# EAGLE library part ADAU1452WBCPZ (library Deegou_IC)
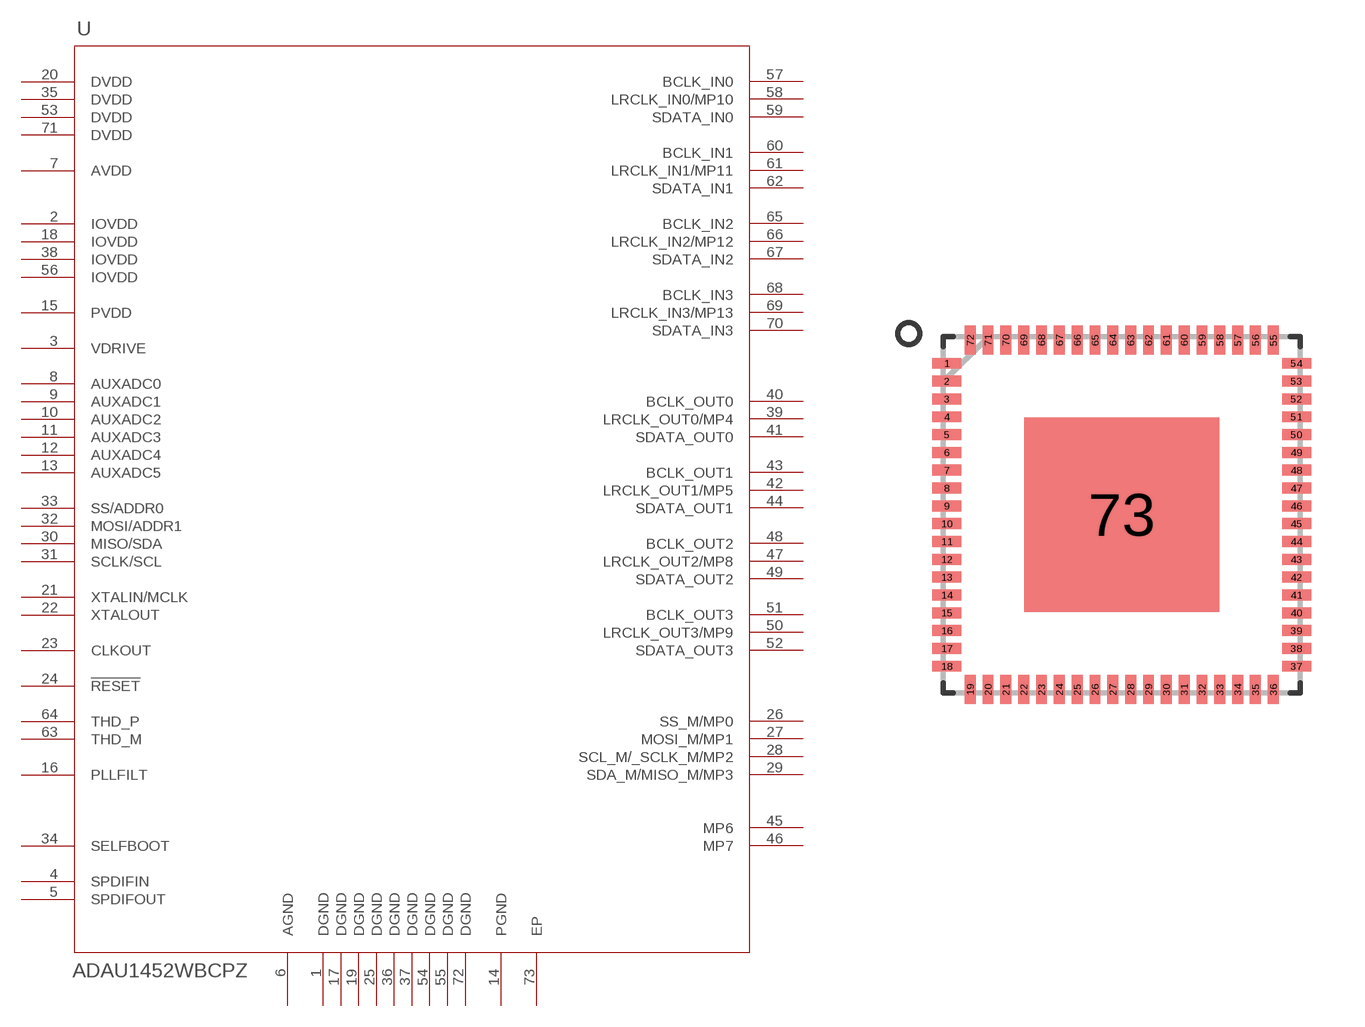
[diagram p101: symbol with the pads of CP_72_6; footprint CP_72_6]

Designator prefix U

## ADAU1452WBCPZ  [CP_72_6]
1  DGND  pas
2  IOVDD  pas
3  VDRIVE  pas
4  SPDIFIN  pas
5  SPDIFOUT  pas
6  AGND  pas
7  AVDD  pas
8  AUXADC0  pas
9  AUXADC1  pas
10  AUXADC2  pas
11  AUXADC3  pas
12  AUXADC4  pas
13  AUXADC5  pas
14  PGND  pas
15  PVDD  pas
16  PLLFILT  pas
17  DGND  pas
18  IOVDD  pas
19  DGND  pas
20  DVDD  pas
21  XTALIN/MCLK  pas
22  XTALOUT  pas
23  CLKOUT  pas
24  !RESET  pas
25  DGND  pas
26  SS_M/MP0  pas
27  MOSI_M/MP1  pas
28  SCL_M/_SCLK_M/MP2  pas
29  SDA_M/MISO_M/MP3  pas
30  MISO/SDA  pas
31  SCLK/SCL  pas
32  MOSI/ADDR1  pas
33  SS/ADDR0  pas
34  SELFBOOT  pas
35  DVDD  pas
36  DGND  pas
37  DGND  pas
38  IOVDD  pas
39  LRCLK_OUT0/MP4  pas
40  BCLK_OUT0  pas
41  SDATA_OUT0  pas
42  LRCLK_OUT1/MP5  pas
43  BCLK_OUT1  pas
44  SDATA_OUT1  pas
45  MP6  pas
46  MP7  pas
47  LRCLK_OUT2/MP8  pas
48  BCLK_OUT2  pas
49  SDATA_OUT2  pas
50  LRCLK_OUT3/MP9  pas
51  BCLK_OUT3  pas
52  SDATA_OUT3  pas
53  DVDD  pas
54  DGND  pas
55  DGND  pas
56  IOVDD  pas
57  BCLK_IN0  pas
58  LRCLK_IN0/MP10  pas
59  SDATA_IN0  pas
60  BCLK_IN1  pas
61  LRCLK_IN1/MP11  pas
62  SDATA_IN1  pas
63  THD_M  pas
64  THD_P  pas
65  BCLK_IN2  pas
66  LRCLK_IN2/MP12  pas
67  SDATA_IN2  pas
68  BCLK_IN3  pas
69  LRCLK_IN3/MP13  pas
70  SDATA_IN3  pas
71  DVDD  pas
72  DGND  pas
73  EP  pas

## Footprint CP_72_6 (pad centres in mm)
smd 0.813 x 0.305: 1 -4.902,4.25; 2 -4.902,3.75; 3 -4.902,3.25; 4 -4.902,2.75; 5 -4.902,2.25; 6 -4.902,1.75; 7 -4.902,1.25; 8 -4.902,0.75; 9 -4.902,0.25; 10 -4.902,-0.25; 11 -4.902,-0.75; 12 -4.902,-1.25; 13 -4.902,-1.75; 14 -4.902,-2.25; 15 -4.902,-2.75; 16 -4.902,-3.25; 17 -4.902,-3.75; 18 -4.902,-4.25; 37 4.902,-4.25; 38 4.902,-3.75; 39 4.902,-3.25; 40 4.902,-2.75; 41 4.902,-2.25; 42 4.902,-1.75; 43 4.902,-1.25; 44 4.902,-0.75; 45 4.902,-0.25; 46 4.902,0.25; 47 4.902,0.75; 48 4.902,1.25; 49 4.902,1.75; 50 4.902,2.25; 51 4.902,2.75; 52 4.902,3.25; 53 4.902,3.75; 54 4.902,4.25
smd 0.305 x 0.813: 19 -4.25,-4.902; 20 -3.75,-4.902; 21 -3.25,-4.902; 22 -2.75,-4.902; 23 -2.25,-4.902; 24 -1.75,-4.902; 25 -1.25,-4.902; 26 -0.75,-4.902; 27 -0.25,-4.902; 28 0.25,-4.902; 29 0.75,-4.902; 30 1.25,-4.902; 31 1.75,-4.902; 32 2.25,-4.902; 33 2.75,-4.902; 34 3.25,-4.902; 35 3.75,-4.902; 36 4.25,-4.902; 55 4.25,4.902; 56 3.75,4.902; 57 3.25,4.902; 58 2.75,4.902; 59 2.25,4.902; 60 1.75,4.902; 61 1.25,4.902; 62 0.75,4.902; 63 0.25,4.902; 64 -0.25,4.902; 65 -0.75,4.902; 66 -1.25,4.902; 67 -1.75,4.902; 68 -2.25,4.902; 69 -2.75,4.902; 70 -3.25,4.902; 71 -3.75,4.902; 72 -4.25,4.902
smd 5.461 x 5.461: 73 0,0